# EAGLE library part ADS1115_IC (library eload_powermeter)
edit this description Auto generated by make-symbol-device-package-bsdl.ulp Rev. 44 Source:
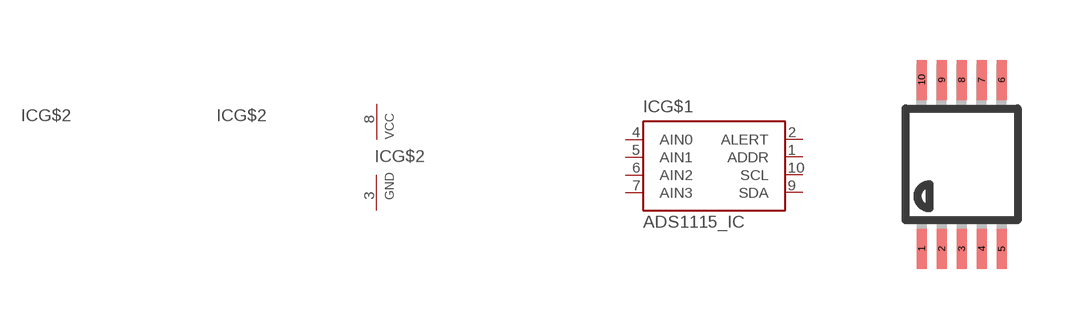
[diagram p1: symbol with the pads of MSOP10; footprint MSOP10]

Designator prefix IC; gates G$1=ADS1115_IC G$2=PWRN

## ADS1115_IC  [MSOP10]
1  G$1:ADDR  in
2  G$1:ALERT  out
3  G$2:GND  sup
4  G$1:AIN0  in
5  G$1:AIN1  in
6  G$1:AIN2  in
7  G$1:AIN3  in
8  G$2:VCC  sup
9  G$1:SDA
10  G$1:SCL

## Footprint MSOP10 (pad centres in mm)
10-Lead Mini Small Outline Package [MSOP] (RM-10) Source: http://www.analog.com/UploadedFiles/Data_Sheets/35641221898805SSM2167_b.pdf COMPLIANT TO JEDEC STANDARDS MO-187BA
smd 0.25 x 1: 1 -1,-2.113; 2 -0.5,-2.113; 3 0,-2.113; 4 0.5,-2.113; 5 1,-2.113; 6 1,2.113; 7 0.5,2.113; 8 0,2.113; 9 -0.5,2.113; 10 -1,2.113